# Altium footprint library MSPM0C1104SDGS20R.PcbLib: 3 footprints
Each footprint in its own frame and in the unit in brackets; x right, y up, seen from the top. Pads: shape width x height; smd on the part's side, far side on the other; paste and mask are expansions set on the pad; w line width, h text height; cw(c..) or ccw(c..) is an arc to the next point about the centre after c.
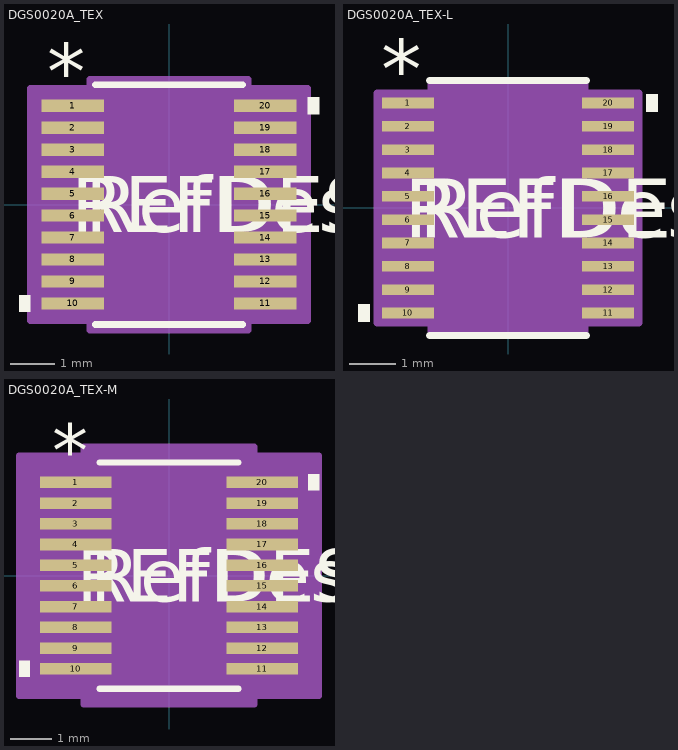
[diagram p0: the footprints below, top view; thin cyan lines are the x and y axes]

## DGS0020A_TEX [mil]
pads (20):
  rect 56x11 smd paste+0 mask+0: 1(-86.5,88.58) 2(-86.5,68.9) 3(-86.5,49.21) 4(-86.5,29.53) 5(-86.5,9.84) 6(-86.5,-9.84) 7(-86.5,-29.53) 8(-86.5,-49.21) 9(-86.5,-68.9) 10(-86.5,-88.58) 11(86.5,-88.58) 12(86.5,-68.9) 13(86.5,-49.21) 14(86.5,-29.53) 15(86.5,-9.84) 16(86.5,9.84) 17(86.5,29.53) 18(86.5,49.21) 19(86.5,68.9) 20(86.5,88.58)
Top Overlay:
  region: -124.5,-81.08 -134.5,-81.08 -134.5,-96.08 -124.5,-96.08
  region: 124.5,96.08 134.5,96.08 134.5,81.08 124.5,81.08
  lines w6: -66,-107.5 66,-107.5 ; -66,107.5 66,107.5
  text "*" at -109,94.58 h50
  text "RefDes" at -75,-25 h50
  text "REFDES" at -87.5,-25 h50
Mechanical 13:
  lines w0: -12,102.5 ccw(c0,102.5) 12,102.5
  lines w1: -100.5,-94.08 -100.5,-83.08 -61,-83.08 -61,-94.08 -100.5,-94.08 ; -100.5,-74.4 -100.5,-63.4 -61,-63.4 -61,-74.4 -100.5,-74.4 ; -100.5,-54.71 -100.5,-43.71 -61,-43.71 -61,-54.71 -100.5,-54.71 ; -100.5,-35.03 -100.5,-24.03 -61,-24.03 -61,-35.03 -100.5,-35.03 ; -100.5,-15.34 -100.5,-4.34 -61,-4.34 -61,-15.34 -100.5,-15.34 ; -100.5,4.34 -100.5,15.34 -61,15.34 -61,4.34 -100.5,4.34 ; -100.5,24.03 -100.5,35.03 -61,35.03 -61,24.03 -100.5,24.03 ; -100.5,43.71 -100.5,54.71 -61,54.71 -61,43.71 -100.5,43.71 ; -100.5,63.4 -100.5,74.4 -61,74.4 -61,63.4 -100.5,63.4 ; -100.5,83.08 -100.5,94.08 -61,94.08 -61,83.08 -100.5,83.08 ; -61,-102.5 61,-102.5 61,102.5 -61,102.5 -61,-102.5 ; 61,-94.08 61,-83.08 100.5,-83.08 100.5,-94.08 61,-94.08 ; 61,-74.4 61,-63.4 100.5,-63.4 100.5,-74.4 61,-74.4 ; 61,-54.71 61,-43.71 100.5,-43.71 100.5,-54.71 61,-54.71 ; 61,-35.03 61,-24.03 100.5,-24.03 100.5,-35.03 61,-35.03 ; 61,-15.34 61,-4.34 100.5,-4.34 100.5,-15.34 61,-15.34 ; 61,4.34 61,15.34 100.5,15.34 100.5,4.34 61,4.34 ; 61,24.03 61,35.03 100.5,35.03 100.5,24.03 61,24.03 ; 61,43.71 61,54.71 100.5,54.71 100.5,43.71 61,43.71 ; 61,63.4 61,74.4 100.5,74.4 100.5,63.4 61,63.4 ; 61,83.08 61,94.08 100.5,94.08 100.5,83.08 61,83.08
  text "*" at -58.5,49.5 h50
  text "RefDes2" at -87.5,-25 h50
Mechanical 15:
  region: -71,-104.08 -124.5,-104.08 -124.5,104.08 -71,104.08 -71,112.5 71,112.5 71,104.08 124.5,104.08 124.5,-104.08 71,-104.08 71,-112.5 -71,-112.5
  lines w6: -124.5,-104.08 -124.5,104.08 -71,104.08 -71,112.5 71,112.5 71,104.08 124.5,104.08 124.5,-104.08 71,-104.08 71,-112.5 -71,-112.5 -71,-104.08 -124.5,-104.08
3D body "DGS0020A_TEX.step": height 43.11, standoff 0, extent -100.51,-102.52 100.51,102.52

## DGS0020A_TEX-L [mil]
pads (20):
  rect 44x9 smd paste+0 mask+0: 1(-84.5,88.58) 2(-84.5,68.9) 3(-84.5,49.21) 4(-84.5,29.53) 5(-84.5,9.84) 6(-84.5,-9.84) 7(-84.5,-29.53) 8(-84.5,-49.21) 9(-84.5,-68.9) 10(-84.5,-88.58) 11(84.5,-88.58) 12(84.5,-68.9) 13(84.5,-49.21) 14(84.5,-29.53) 15(84.5,-9.84) 16(84.5,9.84) 17(84.5,29.53) 18(84.5,49.21) 19(84.5,68.9) 20(84.5,88.58)
Top Overlay:
  region: -116.5,-81.08 -126.5,-81.08 -126.5,-96.08 -116.5,-96.08
  region: 116.5,96.08 126.5,96.08 126.5,81.08 116.5,81.08
  lines w6: -66,-107.5 66,-107.5 ; -66,107.5 66,107.5
  text "*" at -107,92.58 h50
  text "RefDes" at -75,-25 h50
  text "REFDES" at -87.5,-25 h50
Mechanical 13:
  lines w0: -12,102.5 ccw(c0,102.5) 12,102.5
  lines w1: -100.5,-94.08 -100.5,-83.08 -61,-83.08 -61,-94.08 -100.5,-94.08 ; -100.5,-74.4 -100.5,-63.4 -61,-63.4 -61,-74.4 -100.5,-74.4 ; -100.5,-54.71 -100.5,-43.71 -61,-43.71 -61,-54.71 -100.5,-54.71 ; -100.5,-35.03 -100.5,-24.03 -61,-24.03 -61,-35.03 -100.5,-35.03 ; -100.5,-15.34 -100.5,-4.34 -61,-4.34 -61,-15.34 -100.5,-15.34 ; -100.5,4.34 -100.5,15.34 -61,15.34 -61,4.34 -100.5,4.34 ; -100.5,24.03 -100.5,35.03 -61,35.03 -61,24.03 -100.5,24.03 ; -100.5,43.71 -100.5,54.71 -61,54.71 -61,43.71 -100.5,43.71 ; -100.5,63.4 -100.5,74.4 -61,74.4 -61,63.4 -100.5,63.4 ; -100.5,83.08 -100.5,94.08 -61,94.08 -61,83.08 -100.5,83.08 ; -61,-102.5 61,-102.5 61,102.5 -61,102.5 -61,-102.5 ; 61,-94.08 61,-83.08 100.5,-83.08 100.5,-94.08 61,-94.08 ; 61,-74.4 61,-63.4 100.5,-63.4 100.5,-74.4 61,-74.4 ; 61,-54.71 61,-43.71 100.5,-43.71 100.5,-54.71 61,-54.71 ; 61,-35.03 61,-24.03 100.5,-24.03 100.5,-35.03 61,-35.03 ; 61,-15.34 61,-4.34 100.5,-4.34 100.5,-15.34 61,-15.34 ; 61,4.34 61,15.34 100.5,15.34 100.5,4.34 61,4.34 ; 61,24.03 61,35.03 100.5,35.03 100.5,24.03 61,24.03 ; 61,43.71 61,54.71 100.5,54.71 100.5,43.71 61,43.71 ; 61,63.4 61,74.4 100.5,74.4 100.5,63.4 61,63.4 ; 61,83.08 61,94.08 100.5,94.08 100.5,83.08 61,83.08
  text "*" at -58.5,49.5 h50
  text "RefDes2" at -87.5,-25 h50
Mechanical 15:
  region: -65,-97.08 -110.5,-97.08 -110.5,97.08 -65,97.08 -65,106.5 65,106.5 65,97.08 110.5,97.08 110.5,-97.08 65,-97.08 65,-106.5 -65,-106.5
  lines w6: -110.5,-97.08 -110.5,97.08 -65,97.08 -65,106.5 65,106.5 65,97.08 110.5,97.08 110.5,-97.08 65,-97.08 65,-106.5 -65,-106.5 -65,-97.08 -110.5,-97.08
3D body "DGS0020A_TEX.step": height 43.11, standoff 0, extent -100.51,-102.52 100.51,102.52

## DGS0020A_TEX-M [mil]
pads (20):
  rect 68x11 smd paste+0 mask+0: 1(-88.5,88.58) 2(-88.5,68.9) 3(-88.5,49.21) 4(-88.5,29.53) 5(-88.5,9.84) 6(-88.5,-9.84) 7(-88.5,-29.53) 8(-88.5,-49.21) 9(-88.5,-68.9) 10(-88.5,-88.58) 11(88.5,-88.58) 12(88.5,-68.9) 13(88.5,-49.21) 14(88.5,-29.53) 15(88.5,-9.84) 16(88.5,9.84) 17(88.5,29.53) 18(88.5,49.21) 19(88.5,68.9) 20(88.5,88.58)
Top Overlay:
  region: -132.5,-81.08 -142.5,-81.08 -142.5,-96.08 -132.5,-96.08
  region: 132.5,96.08 142.5,96.08 142.5,81.08 132.5,81.08
  lines w6: -66,-107.5 66,-107.5 ; -66,107.5 66,107.5
  text "*" at -111,94.58 h50
  text "RefDes" at -75,-25 h50
  text "REFDES" at -87.5,-25 h50
Mechanical 13:
  lines w0: -12,102.5 ccw(c0,102.5) 12,102.5
  lines w1: -100.5,-94.08 -100.5,-83.08 -61,-83.08 -61,-94.08 -100.5,-94.08 ; -100.5,-74.4 -100.5,-63.4 -61,-63.4 -61,-74.4 -100.5,-74.4 ; -100.5,-54.71 -100.5,-43.71 -61,-43.71 -61,-54.71 -100.5,-54.71 ; -100.5,-35.03 -100.5,-24.03 -61,-24.03 -61,-35.03 -100.5,-35.03 ; -100.5,-15.34 -100.5,-4.34 -61,-4.34 -61,-15.34 -100.5,-15.34 ; -100.5,4.34 -100.5,15.34 -61,15.34 -61,4.34 -100.5,4.34 ; -100.5,24.03 -100.5,35.03 -61,35.03 -61,24.03 -100.5,24.03 ; -100.5,43.71 -100.5,54.71 -61,54.71 -61,43.71 -100.5,43.71 ; -100.5,63.4 -100.5,74.4 -61,74.4 -61,63.4 -100.5,63.4 ; -100.5,83.08 -100.5,94.08 -61,94.08 -61,83.08 -100.5,83.08 ; -61,-102.5 61,-102.5 61,102.5 -61,102.5 -61,-102.5 ; 61,-94.08 61,-83.08 100.5,-83.08 100.5,-94.08 61,-94.08 ; 61,-74.4 61,-63.4 100.5,-63.4 100.5,-74.4 61,-74.4 ; 61,-54.71 61,-43.71 100.5,-43.71 100.5,-54.71 61,-54.71 ; 61,-35.03 61,-24.03 100.5,-24.03 100.5,-35.03 61,-35.03 ; 61,-15.34 61,-4.34 100.5,-4.34 100.5,-15.34 61,-15.34 ; 61,4.34 61,15.34 100.5,15.34 100.5,4.34 61,4.34 ; 61,24.03 61,35.03 100.5,35.03 100.5,24.03 61,24.03 ; 61,43.71 61,54.71 100.5,54.71 100.5,43.71 61,43.71 ; 61,63.4 61,74.4 100.5,74.4 100.5,63.4 61,63.4 ; 61,83.08 61,94.08 100.5,94.08 100.5,83.08 61,83.08
  text "*" at -58.5,49.5 h50
  text "RefDes2" at -87.5,-25 h50
Mechanical 15:
  region: -81,-114.08 -142.5,-114.08 -142.5,114.08 -81,114.08 -81,122.5 81,122.5 81,114.08 142.5,114.08 142.5,-114.08 81,-114.08 81,-122.5 -81,-122.5
  lines w6: -142.5,-114.08 -142.5,114.08 -81,114.08 -81,122.5 81,122.5 81,114.08 142.5,114.08 142.5,-114.08 81,-114.08 81,-122.5 -81,-122.5 -81,-114.08 -142.5,-114.08
3D body "DGS0020A_TEX.step": height 43.11, standoff 0, extent -100.51,-102.52 100.51,102.52